# Altium footprint library CON 10X2_Ribbon.PcbLib: 1 footprints
Each footprint in its own frame and in the unit in brackets; x right, y up, seen from the top. Pads: shape width x height; smd on the part's side, far side on the other; paste and mask are expansions set on the pad; w line width, h text height; cw(c..) or ccw(c..) is an arc to the next point about the centre after c.
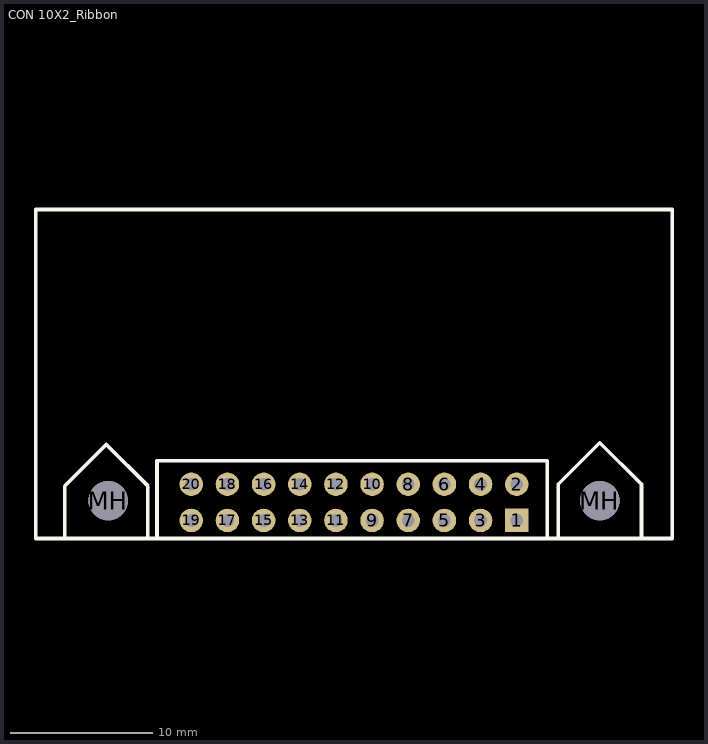
[diagram p0: the footprint, top view; thin cyan lines are the x and y axes]

## CON 10X2_Ribbon [mil] "20 Pin Ribbon Connector"
pads (22):
  rect 65x65 hole 35: 1(-24305,-23635)
  round 65 hole 35: 2(-24305,-23535) 3(-24405,-23635) 4(-24405,-23535) 5(-24505,-23635) 6(-24505,-23535) 7(-24605,-23635) 8(-24605,-23535) 9(-24705,-23635) 10(-24705,-23535) 11(-24805,-23635) 12(-24805,-23535) 13(-24905,-23635) 14(-24905,-23535) 15(-25005,-23635) 16(-25005,-23535) 17(-25105,-23635) 18(-25105,-23535) 19(-25205,-23635) 20(-25205,-23535)
  round 109 hole 109: MH(-25435,-23580) MH(-24075,-23580)
Top Overlay:
  lines w10: -25555,-23685 -25555,-23540 -25440,-23425 -25325,-23540 -25325,-23685 ; -25300,-23685 -25300,-23470 -24220,-23470 -24220,-23685 ; -24190,-23680 -24190,-23535 -24075,-23420 -23960,-23535 -23960,-23680 ; -25635,-23685 -23875,-23685 -23875,-22775 -25635,-22775 -25635,-23685
3D body: height 367.32, standoff -97.24, extent -25635,-23685 -23875.16,-22777.91